# Altium footprint library PCB - LEADLESS - SON - TI VSON-10 DRC0010U.PcbLib: 1 footprints
Each footprint in its own frame and in the unit in brackets; x right, y up, seen from the top. Pads: shape width x height; smd on the part's side, far side on the other; paste and mask are expansions set on the pad; w line width, h text height; cw(c..) or ccw(c..) is an arc to the next point about the centre after c.
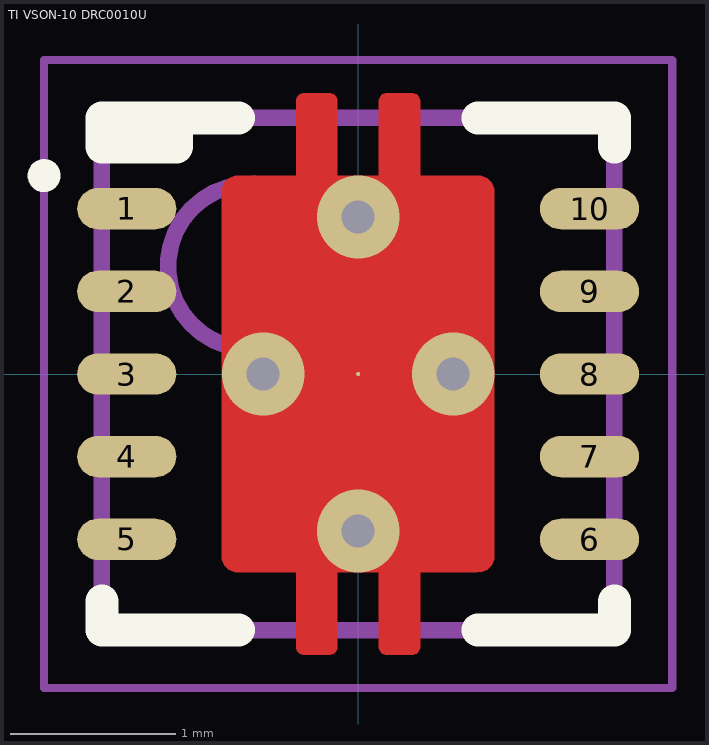
[diagram p0: the footprint, top view; thin cyan lines are the x and y axes]

## TI VSON-10 DRC0010U [mm] "VSON, 10-Leads, Body 3.00x3.00mm, Pitch 0.50mm, Thermal Pad 2.40x1.65mm"
height 1
pads (11):
  oval 0.6x0.25 smd: 1(-1.4,1) 2(-1.4,0.5) 3(-1.4,0) 4(-1.4,-0.5) 5(-1.4,-1) 6(1.4,-1) 7(1.4,-0.5) 8(1.4,0) 9(1.4,0.5) 10(1.4,1)
  round 0.025 smd paste-2539.97: 11(0,0)
via 0,-0.95 diameter 0.5 hole 0.2
via 0,0.95 diameter 0.5 hole 0.2
via 0.575,0 diameter 0.5 hole 0.2
via -0.575,0 diameter 0.5 hole 0.2
Top Layer:
  region: -0.825,1.1 -0.825,1.12 -0.81,1.157 -0.782,1.185 -0.745,1.2 -0.725,1.2 -0.375,1.2 -0.375,1.65 -0.375,1.66 -0.367,1.678 -0.353,1.692 -0.335,1.7 -0.325,1.7 -0.175,1.7 -0.165,1.7 -0.147,1.692 -0.133,1.678 -0.125,1.66 -0.125,1.65 -0.125,1.2 0.125,1.2 0.125,1.65 0.125,1.66 0.133,1.678 0.147,1.692 0.165,1.7 0.175,1.7 0.325,1.7 0.335,1.7 0.353,1.692 0.367,1.678 0.375,1.66 0.375,1.65 0.375,1.2 0.725,1.2 0.745,1.2 0.782,1.185 0.81,1.157 0.825,1.12 0.825,1.1 0.825,-1.1 0.825,-1.12 0.81,-1.157 0.782,-1.185 0.745,-1.2 0.725,-1.2 0.375,-1.2 0.375,-1.65 0.375,-1.66 0.367,-1.678 0.353,-1.692 0.335,-1.7 0.325,-1.7 0.175,-1.7 0.165,-1.7 0.147,-1.692 0.133,-1.678 0.125,-1.66 0.125,-1.65 0.125,-1.2 -0.125,-1.2 -0.125,-1.65 -0.125,-1.66 -0.133,-1.678 -0.147,-1.692 -0.165,-1.7 -0.175,-1.7 -0.325,-1.7 -0.335,-1.7 -0.353,-1.692 -0.367,-1.678 -0.375,-1.66 -0.375,-1.65 -0.375,-1.2 -0.725,-1.2 -0.745,-1.2 -0.782,-1.185 -0.81,-1.157 -0.825,-1.12 -0.825,-1.1
Top Overlay:
  circle w0.1: c-1.9,1.2 r0.05
  lines w0.2: -1.55,-1.375 -1.55,-1.55 -0.725,-1.55 ; -1.1,1.55 -1.1,1.375 -1.55,1.375 -1.55,1.55 -0.725,1.55 ; 0.725,-1.55 1.55,-1.55 1.55,-1.375 ; 0.725,1.55 1.55,1.55 1.55,1.375
Top Paste:
  drawing of 6 lines, arcs and shapes, not listed
Top Assembly:
  circle w0.1: c-0.65,0.65 r0.5
  lines w0.1: -1.55,-1.55 1.55,-1.55 1.55,1.55 -1.55,1.55 -1.55,-1.55
Top Component Center:
  lines w0.1: -0.5,0 0.5,0 ; 0,-0.5 0,0.5
Top Courtyard:
  lines w0.05: -1.9,-1.9 -1.9,1.9 1.9,1.9 1.9,-1.9 -1.9,-1.9
3D body "TI VSON-10 DRC0010U.step": height 1, standoff 0, extent -1.551,-1.55 1.551,1.55